# Altium footprint library BGA12C40P4X3_168X128X62B25L.PcbLib: 1 footprints
Each footprint in its own frame and in the unit in brackets; x right, y up, seen from the top. Pads: shape width x height; smd on the part's side, far side on the other; paste and mask are expansions set on the pad; w line width, h text height; cw(c..) or ccw(c..) is an arc to the next point about the centre after c.
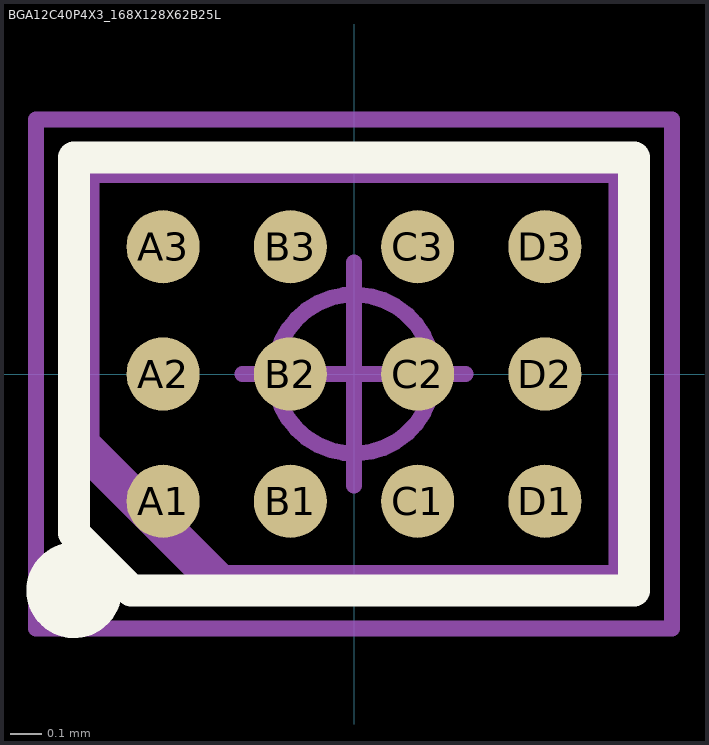
[diagram p0: the footprint, top view; thin cyan lines are the x and y axes]

## BGA12C40P4X3_168X128X62B25L [mm] "Ball Grid Array (BGA), 0.40 mm pitch, rect.; 12 pin, 1.686 mm L X 1.286 mm W X 0.625 mm H body"
height 0.625
pads (12):
  round 0.23 smd mask+0.03: A1(-0.6,-0.4) A2(-0.6,0) A3(-0.6,0.4) B1(-0.2,-0.4) B2(-0.2,0) B3(-0.2,0.4) C1(0.2,-0.4) C2(0.2,0) C3(0.2,0.4) D1(0.6,-0.4) D2(0.6,0) D3(0.6,0.4)
Top Overlay:
  circle w0.15: c-0.88,-0.68 r0.075
  lines w0.1: -0.88,-0.5 -0.88,0.68 0.88,0.68 0.88,-0.68 -0.7,-0.68 -0.88,-0.5
Fab - Detail1, HDI1:
  lines w0.12: -0.86,-0.22 -0.42,-0.66 0.86,-0.66 0.86,0.66 -0.86,0.66 -0.86,-0.22
Courtyards/Models - Top:
  circle w0.05: c0,0 r0.25
  lines w0.05: -0.35,0 0.35,0 ; 0,-0.35 0,0.35 ; -1,-0.8 -1,0.8 1,0.8 1,-0.8 -1,-0.8
3D body: height 0.63, standoff 0, extent -0.843,-0.643 0.843,0.643